# Altium schematic symbol library AP5056.SchLib: 1 symbol
Pins are listed as number, name and electrical type; pins without a type are passive.

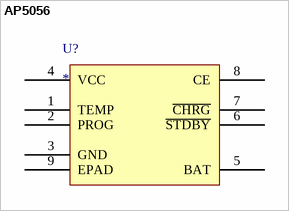
[diagram p0: symbol AP5056]

## AP5056
designator U?
Linear Charger For Single Cell Lithium-ion Battery
footprint AP5056-SOP8-EPAD
pins: 1 TEMP, 2 PROG, 3 GND, 4 VCC, 5 BAT, 6 ~{STDBY}, 7 ~{CHRG}, 8 CE, 9 EPAD